# EAGLE library part MC34063ACD-TR (library SamacSys_Parts)
MC34063ACD-TR, DC-DC Controller, 40 V, 8-Pin, SOIC Source: Datasheet <http://www.st.com/st-web-ui/static/active/en/resource/technical/document/datasheet/CD00001232.pdf>
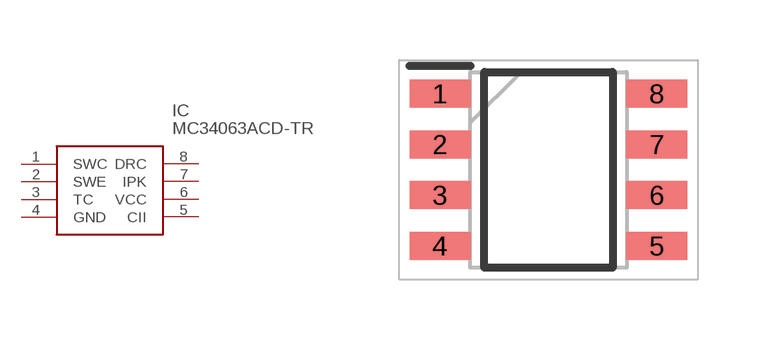
[diagram p0: symbol with the pads of SOIC127P600X175-8N; footprint SOIC127P600X175-8N]

Designator prefix IC

## MC34063ACD-TR (Description: MC34063ACD-TR, DC-DC Controller, 40 V, 8-Pin, SOIC; Height: 1.75mm; Manufacturer_Name: STMicroelectronics; Manufacturer_Part_Number: MC34063ACD-TR; Mouser_Part_Number: 511-MC34063ACD-TR; Mouser_Price-Stock: https://www.mouser.co.uk/ProductDetail/STMicroelectronics/MC34063ACD-TR?qs=zDcCjb1ShEnlEhOFqqejBw%3D%3D)  [SOIC127P600X175-8N]
1  SWC
2  SWE
3  TC
4  GND
5  CII
6  VCC
7  IPK
8  DRC

## Footprint SOIC127P600X175-8N (pad centres in mm)
MC34063ACD-TR
smd 1.525 x 0.7: 1 -2.712,1.905; 2 -2.712,0.635; 3 -2.712,-0.635; 4 -2.712,-1.905; 5 2.712,-1.905; 6 2.712,-0.635; 7 2.712,0.635; 8 2.712,1.905